# Altium schematic symbol library Capasitors.SchLib: 2 symbols
Pins are listed as number, name and electrical type; pins without a type are passive.

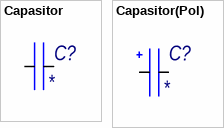
[diagram p0: symbols Capasitor to Capasitor(Pol)]

## Capasitor
designator C?
Value: *; Name: *; Body: *
footprint C0402 (Chip Capacitor, 2-Leads, Body 1,00x0,50mm, IPC Medium Density)
footprint C0603 (Chip Capacitor, 2-Leads, Body 1,60x0,80mm, IPC Medium Density)
footprint C0805 (Chip Capacitor, 2-Leads, Body 2,00x1,25mm, IPC Medium Density)
footprint C1206 (Chip Capacitor, 2-Leads, Body 3,20x1,60mm, IPC Medium Density)
pins: 1 (power), 2 (power)

## Capasitor(Pol)
designator C?
Value: *; Body: *
footprint 10x16
footprint 10x16_horizontal
footprint Cap_Type_D
footprint CAP_TYPE_A (Chip Capacitor, 2-Leads, Body 3,20x1,60mm, IPC Medium Density)
footprint CAP_TYPE_C (Molded Capacitor, 2-Leads, Body 6,00x3,20mm, IPC Medium Density)
pins: 1 (power), 2 (power)